# Altium footprint library ase.PCBLIB: 1 footprints
Each footprint in its own frame and in the unit in brackets; x right, y up, seen from the top. Pads: shape width x height; smd on the part's side, far side on the other; paste and mask are expansions set on the pad; w line width, h text height; cw(c..) or ccw(c..) is an arc to the next point about the centre after c.
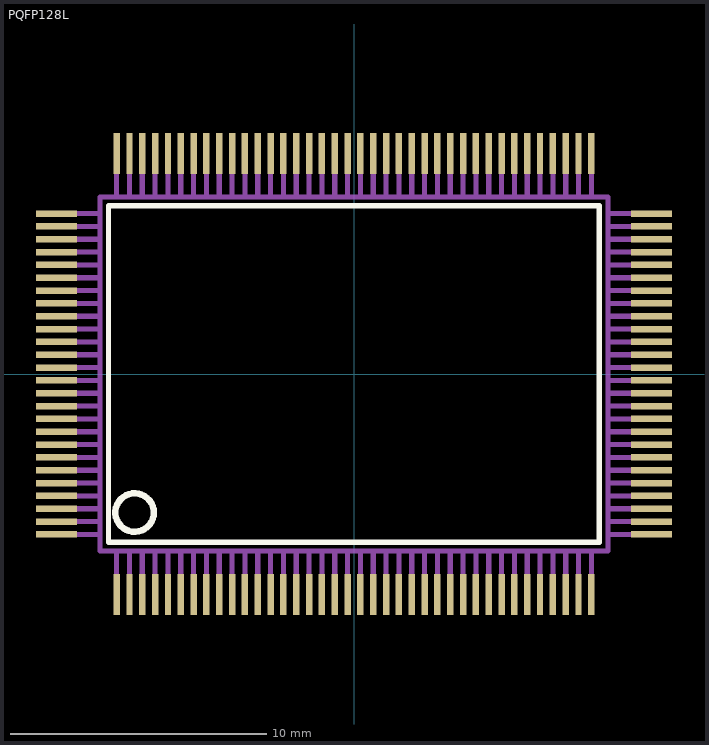
[diagram p0: the footprint, top view; thin cyan lines are the x and y axes]

## PQFP128L [mm]
pads (128):
  rect 0.25x1.6 smd: 1(-9.25,-8.6) 2(-8.75,-8.6) 3(-8.25,-8.6) 4(-7.75,-8.6) 5(-7.25,-8.6) 6(-6.75,-8.6) 7(-6.25,-8.6) 8(-5.75,-8.6) 9(-5.25,-8.6) 10(-4.75,-8.6) 11(-4.25,-8.6) 12(-3.75,-8.6) 13(-3.25,-8.6) 14(-2.75,-8.6) 15(-2.25,-8.6) 16(-1.75,-8.6) 17(-1.25,-8.6) 18(-0.75,-8.6) 19(-0.25,-8.6) 20(0.25,-8.6) 21(0.75,-8.6) 22(1.25,-8.6) 23(1.75,-8.6) 24(2.25,-8.6) 25(2.75,-8.6) 26(3.25,-8.6) 27(3.75,-8.6) 28(4.25,-8.6) 29(4.75,-8.6) 30(5.25,-8.6) 31(5.75,-8.6) 32(6.25,-8.6) 33(6.75,-8.6) 34(7.25,-8.6) 35(7.75,-8.6) 36(8.25,-8.6) 37(8.75,-8.6) 38(9.25,-8.6) 65(9.25,8.6) 66(8.75,8.6) 67(8.25,8.6) 68(7.75,8.6) 69(7.25,8.6) 70(6.75,8.6) 71(6.25,8.6) 72(5.75,8.6) 73(5.25,8.6) 74(4.75,8.6) 75(4.25,8.6) 76(3.75,8.6) 77(3.25,8.6) 78(2.75,8.6) 79(2.25,8.6) 80(1.75,8.6) 81(1.25,8.6) 82(0.75,8.6) 83(0.25,8.6) 84(-0.25,8.6) 85(-0.75,8.6) 86(-1.25,8.6) 87(-1.75,8.6) 88(-2.25,8.6) 89(-2.75,8.6) 90(-3.25,8.6) 91(-3.75,8.6) 92(-4.25,8.6) 93(-4.75,8.6) 94(-5.25,8.6) 95(-5.75,8.6) 96(-6.25,8.6) 97(-6.75,8.6) 98(-7.25,8.6) 99(-7.75,8.6) 100(-8.25,8.6) 101(-8.75,8.6) 102(-9.25,8.6)
  rect 1.6x0.25 smd: 39(11.6,-6.25) 40(11.6,-5.75) 41(11.6,-5.25) 42(11.6,-4.75) 43(11.6,-4.25) 44(11.6,-3.75) 45(11.6,-3.25) 46(11.6,-2.75) 47(11.6,-2.25) 48(11.6,-1.75) 49(11.6,-1.25) 50(11.6,-0.75) 51(11.6,-0.25) 52(11.6,0.25) 53(11.6,0.75) 54(11.6,1.25) 55(11.6,1.75) 56(11.6,2.25) 57(11.6,2.75) 58(11.6,3.25) 59(11.6,3.75) 60(11.6,4.25) 61(11.6,4.75) 62(11.6,5.25) 63(11.6,5.75) 64(11.6,6.25) 103(-11.6,6.25) 104(-11.6,5.75) 105(-11.6,5.25) 106(-11.6,4.75) 107(-11.6,4.25) 108(-11.6,3.75) 109(-11.6,3.25) 110(-11.6,2.75) 111(-11.6,2.25) 112(-11.6,1.75) 113(-11.6,1.25) 114(-11.6,0.75) 115(-11.6,0.25) 116(-11.6,-0.25) 117(-11.6,-0.75) 118(-11.6,-1.25) 119(-11.6,-1.75) 120(-11.6,-2.25) 121(-11.6,-2.75) 122(-11.6,-3.25) 123(-11.6,-3.75) 124(-11.6,-4.25) 125(-11.6,-4.75) 126(-11.6,-5.25) 127(-11.6,-5.75) 128(-11.6,-6.25)
Top Overlay:
  circle w0.254: c-8.55,-5.4 r0.75
  lines w0.203: -9.57,-6.56 9.56,-6.56 9.56,6.56 -9.57,6.56 -9.57,-6.56
Mechanical 16:
  rectangle: -9.35,-8.95 -9.15,-6.95
  rectangle: -8.85,-8.95 -8.65,-6.95
  rectangle: -8.35,-8.95 -8.15,-6.95
  rectangle: -7.85,-8.95 -7.65,-6.95
  rectangle: -7.35,-8.95 -7.15,-6.95
  rectangle: -6.85,-8.95 -6.65,-6.95
  rectangle: -6.35,-8.95 -6.15,-6.95
  rectangle: -5.85,-8.95 -5.65,-6.95
  rectangle: -5.35,-8.95 -5.15,-6.95
  rectangle: -4.85,-8.95 -4.65,-6.95
  rectangle: -4.35,-8.95 -4.15,-6.95
  rectangle: -3.85,-8.95 -3.65,-6.95
  rectangle: -3.35,-8.95 -3.15,-6.95
  rectangle: -2.85,-8.95 -2.65,-6.95
  rectangle: -2.35,-8.95 -2.15,-6.95
  rectangle: -1.85,-8.95 -1.65,-6.95
  rectangle: -1.35,-8.95 -1.15,-6.95
  rectangle: -0.85,-8.95 -0.65,-6.95
  rectangle: -0.35,-8.95 -0.15,-6.95
  rectangle: 0.15,-8.95 0.35,-6.95
  rectangle: 0.65,-8.95 0.85,-6.95
  rectangle: 1.15,-8.95 1.35,-6.95
  rectangle: 1.65,-8.95 1.85,-6.95
  rectangle: 2.15,-8.95 2.35,-6.95
  rectangle: 2.65,-8.95 2.85,-6.95
  rectangle: 3.15,-8.95 3.35,-6.95
  rectangle: 3.65,-8.95 3.85,-6.95
  rectangle: 4.15,-8.95 4.35,-6.95
  rectangle: 4.65,-8.95 4.85,-6.95
  rectangle: 5.15,-8.95 5.35,-6.95
  rectangle: 5.65,-8.95 5.85,-6.95
  rectangle: 6.15,-8.95 6.35,-6.95
  rectangle: 6.65,-8.95 6.85,-6.95
  rectangle: 7.15,-8.95 7.35,-6.95
  rectangle: 7.65,-8.95 7.85,-6.95
  rectangle: 8.15,-8.95 8.35,-6.95
  rectangle: 8.65,-8.95 8.85,-6.95
  rectangle: 9.15,-8.95 9.35,-6.95
  rectangle: 9.95,-6.35 11.95,-6.15
  rectangle: 9.95,-5.85 11.95,-5.65
  rectangle: 9.95,-5.35 11.95,-5.15
  rectangle: 9.95,-4.85 11.95,-4.65
  rectangle: 9.95,-4.35 11.95,-4.15
  rectangle: 9.95,-3.85 11.95,-3.65
  rectangle: 9.95,-3.35 11.95,-3.15
  rectangle: 9.95,-2.85 11.95,-2.65
  rectangle: 9.95,-2.35 11.95,-2.15
  rectangle: 9.95,-1.85 11.95,-1.65
  rectangle: 9.95,-1.35 11.95,-1.15
  rectangle: 9.95,-0.85 11.95,-0.65
  rectangle: 9.95,-0.35 11.95,-0.15
  rectangle: 9.95,0.15 11.95,0.35
  rectangle: 9.95,0.65 11.95,0.85
  rectangle: 9.95,1.15 11.95,1.35
  rectangle: 9.95,1.65 11.95,1.85
  rectangle: 9.95,2.15 11.95,2.35
  rectangle: 9.95,2.65 11.95,2.85
  rectangle: 9.95,3.15 11.95,3.35
  rectangle: 9.95,3.65 11.95,3.85
  rectangle: 9.95,4.15 11.95,4.35
  rectangle: 9.95,4.65 11.95,4.85
  rectangle: 9.95,5.15 11.95,5.35
  rectangle: 9.95,5.65 11.95,5.85
  rectangle: 9.95,6.15 11.95,6.35
  rectangle: 9.15,6.95 9.35,8.95
  rectangle: 8.65,6.95 8.85,8.95
  rectangle: 8.15,6.95 8.35,8.95
  rectangle: 7.65,6.95 7.85,8.95
  rectangle: 7.15,6.95 7.35,8.95
  rectangle: 6.65,6.95 6.85,8.95
  rectangle: 6.15,6.95 6.35,8.95
  rectangle: 5.65,6.95 5.85,8.95
  rectangle: 5.15,6.95 5.35,8.95
  rectangle: 4.65,6.95 4.85,8.95
  rectangle: 4.15,6.95 4.35,8.95
  rectangle: 3.65,6.95 3.85,8.95
  rectangle: 3.15,6.95 3.35,8.95
  rectangle: 2.65,6.95 2.85,8.95
  rectangle: 2.15,6.95 2.35,8.95
  rectangle: 1.65,6.95 1.85,8.95
  rectangle: 1.15,6.95 1.35,8.95
  rectangle: 0.65,6.95 0.85,8.95
  rectangle: 0.15,6.95 0.35,8.95
  rectangle: -0.35,6.95 -0.15,8.95
  rectangle: -0.85,6.95 -0.65,8.95
  rectangle: -1.35,6.95 -1.15,8.95
  rectangle: -1.85,6.95 -1.65,8.95
  rectangle: -2.35,6.95 -2.15,8.95
  rectangle: -2.85,6.95 -2.65,8.95
  rectangle: -3.35,6.95 -3.15,8.95
  rectangle: -3.85,6.95 -3.65,8.95
  rectangle: -4.35,6.95 -4.15,8.95
  rectangle: -4.85,6.95 -4.65,8.95
  rectangle: -5.35,6.95 -5.15,8.95
  rectangle: -5.85,6.95 -5.65,8.95
  rectangle: -6.35,6.95 -6.15,8.95
  rectangle: -6.85,6.95 -6.65,8.95
  rectangle: -7.35,6.95 -7.15,8.95
  rectangle: -7.85,6.95 -7.65,8.95
  rectangle: -8.35,6.95 -8.15,8.95
  rectangle: -8.85,6.95 -8.65,8.95
  rectangle: -9.35,6.95 -9.15,8.95
  rectangle: -11.95,6.15 -9.95,6.35
  rectangle: -11.95,5.65 -9.95,5.85
  rectangle: -11.95,5.15 -9.95,5.35
  rectangle: -11.95,4.65 -9.95,4.85
  rectangle: -11.95,4.15 -9.95,4.35
  rectangle: -11.95,3.65 -9.95,3.85
  rectangle: -11.95,3.15 -9.95,3.35
  rectangle: -11.95,2.65 -9.95,2.85
  rectangle: -11.95,2.15 -9.95,2.35
  rectangle: -11.95,1.65 -9.95,1.85
  rectangle: -11.95,1.15 -9.95,1.35
  rectangle: -11.95,0.65 -9.95,0.85
  rectangle: -11.95,0.15 -9.95,0.35
  rectangle: -11.95,-0.35 -9.95,-0.15
  rectangle: -11.95,-0.85 -9.95,-0.65
  rectangle: -11.95,-1.35 -9.95,-1.15
  rectangle: -11.95,-1.85 -9.95,-1.65
  rectangle: -11.95,-2.35 -9.95,-2.15
  rectangle: -11.95,-2.85 -9.95,-2.65
  rectangle: -11.95,-3.35 -9.95,-3.15
  rectangle: -11.95,-3.85 -9.95,-3.65
  rectangle: -11.95,-4.35 -9.95,-4.15
  rectangle: -11.95,-4.85 -9.95,-4.65
  rectangle: -11.95,-5.35 -9.95,-5.15
  rectangle: -11.95,-5.85 -9.95,-5.65
  rectangle: -11.95,-6.35 -9.95,-6.15
  lines w0.203: -9.9,-6.9 9.9,-6.9 9.9,6.9 -9.9,6.9 -9.9,-6.9